# Altium footprint library 二极管.PcbLib: 25 footprints (part 2 of 2)
Each footprint in its own frame and in the unit in brackets; x right, y up, seen from the top. Pads: shape width x height; smd on the part's side, far side on the other; paste and mask are expansions set on the pad; w line width, h text height; cw(c..) or ccw(c..) is an arc to the next point about the centre after c.
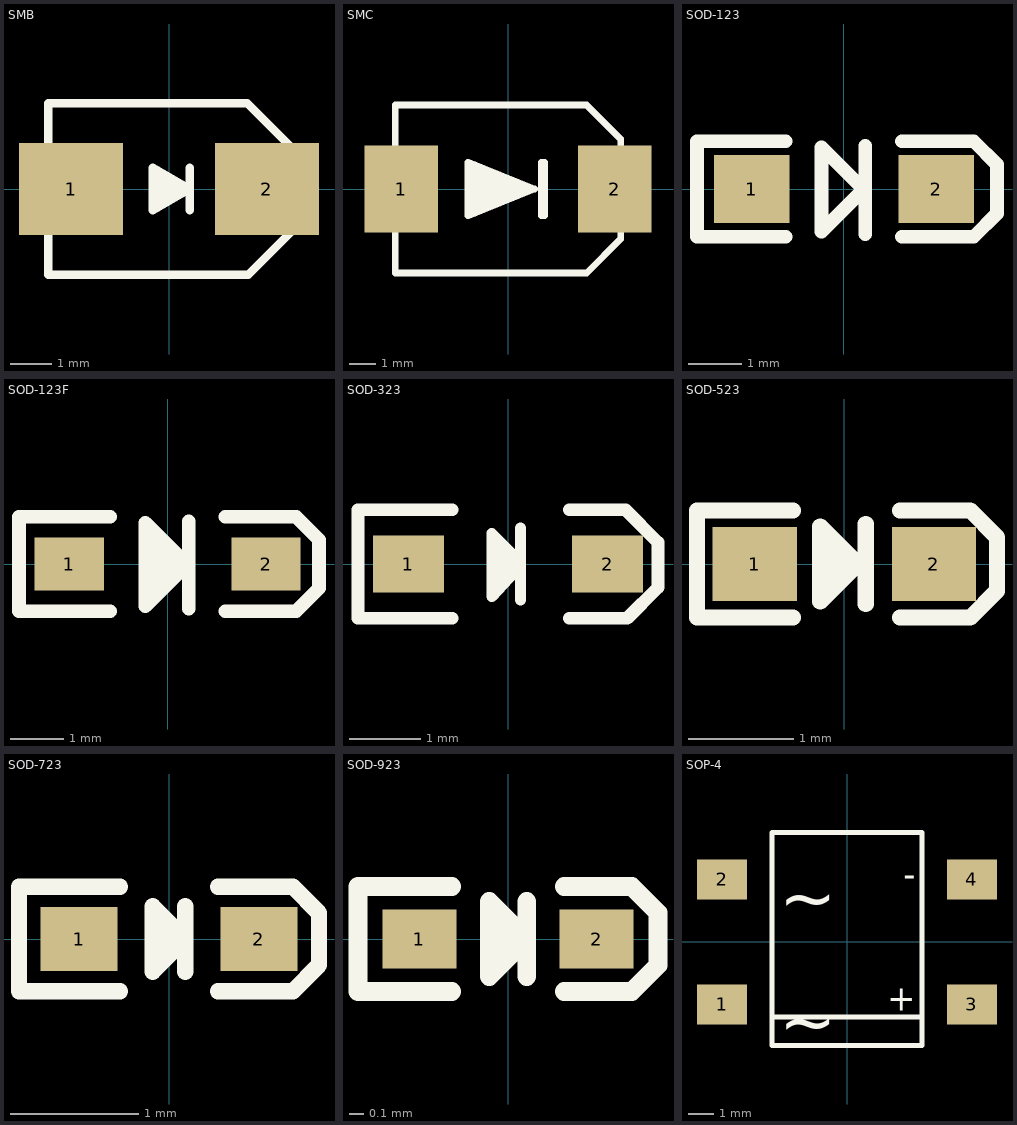
[diagram p1: the footprints below, top view; thin cyan lines are the x and y axes]

## SMB [mm] "4.7*3.9*2.2mm(长宽高，不包括引脚）"
height 2.4
pads (2):
  rect 2.5x2.2 smd: 1(-2.35,0) 2(2.35,0)
Top Overlay:
  lines w0.2: -2.896,-2.057 -2.896,2.057 1.88,2.057 2.896,1.041 2.896,-1.066 1.905,-2.057 -2.896,-2.057
  lines w0.203: 0.5,-0.508 0.5,0.508 ; -0.389,-0.508 -0.389,0.508 0.5,0 -0.389,-0.508
  lines w0.254: -0.254,0 0.279,0 ; 0.279,0 -0.229,0.279 -0.229,-0.305 0.279,0
3D body: height 2.35, standoff 0.04, extent -2.629,-1.8 2.675,1.8

## SMC [mil] "7.1x5.9*2.3mm（长宽高，不包括引脚）"
height 94.88
pads (2):
  rect 110x130 smd: 1(-160,0) 2(160,0)
Top Overlay:
  lines w10: -50,-36 -50,36 ; -50,-30 30,0 -50,30 ; -40,-26.25 -40,26.25 ; -30,-20 -30,22.5 ; -20,-18.75 -20,18.75 ; -20,-10 20,0 -20,10 ; -20,0 10,0 ; -169,-125.98 118.03,-125.98 169.02,-75 169.02,75 118.02,126 -169,126 -169,-125.98 ; -60,-40 40,0 -60,40 -60,-40 ; 50,-40 55,-40 55,40 50,40 50,-40
3D body: height 96.46, standoff 1.18, extent -155.62,-114.17 155.62,114.18

## SOD-123 [mil] "2.7x1.6X1.1mm（长宽高，不包括引脚）"
pads (2):
  rect 55x50 smd: 1(-67.5,0) 2(67.5,0)
Top Overlay:
  lines w10: -42.5,-35 -107.5,-35 -107.5,35 -42.5,35 ; 14,-0.8 -16.4,-31.2 -16.4,30.5 15.6,-1.5 ; 15.6,-33.1 15.6,31.7 ; 42.5,-35 95,-35 112,-18 112,18 95,35 42.5,35
3D body: height 48.03, standoff 0, extent -72.84,-31.5 72.83,31.5

## SOD-123F [mm] "2.7x1.6X1.1mm（长宽高，不包括引脚）"
pads (2):
  rect 1.3x1 smd: 1(-1.85,0) 2(1.85,0)
Top Overlay:
  lines w0.254: -1.079,-0.889 -2.794,-0.889 -2.794,0.889 -1.079,0.889 ; -0.254,0.559 -0.229,-0.432 0.254,0 0,0.254 0,0 0,-0.254 ; 0.356,-0.02 -0.417,-0.792 -0.417,0.775 0.396,-0.038 ; 0.396,-0.841 0.396,0.805 ; 1.079,-0.889 2.413,-0.889 2.845,-0.457 2.845,0.457 2.413,0.889 1.079,0.889
3D body: height 1.15, standoff 0.04, extent -1.9,-0.8 1.9,0.8

## SOD-323 [mm] "1.8x1.3X0.9mm（长宽高，不包括引脚）"
pads (2):
  rect 1x0.8 smd: 1(-1.4,0) 2(1.4,0)
Top Overlay:
  lines w0.152: 0.178,-0.508 0.178,0.508 ; 0.178,-0.025 -0.229,-0.457 -0.229,0.432 0.178,0.025
  lines w0.178: -0.787,-0.762 -2.108,-0.762 -2.108,0.762 -0.787,0.762 ; 0.864,-0.762 1.676,-0.762 2.108,-0.33 2.108,0.305 1.651,0.762 0.864,0.762
  lines w0.254: -0.127,0.254 -0.152,-0.178 0.025,-0.025 -0.025,0.127
3D body: height 1, standoff 0.04, extent -1.337,-0.631 1.311,0.669

## SOD-523 [mm] "1.2x0.8X0.6mm（长宽高，不包括引脚）"
pads (2):
  rect 0.8x0.7 smd: 1(-0.85,0) 2(0.85,0)
Top Overlay:
  rectangle: -0.178,-0.178 0,0.178
  lines w0.152: -0.488,-0.508 -1.397,-0.508 -1.397,0.508 -0.488,0.508 ; -0.127,0 0.127,0 ; 0.203,-0.381 0.203,0.381 ; 0.528,-0.508 1.194,-0.508 1.448,-0.254 1.448,0.254 1.194,0.508 0.528,0.508 ; 0.127,0 -0.229,-0.356 -0.229,0.356 0.127,0
3D body: height 0.65, standoff 0.05, extent -0.8,-0.4 0.8,0.4

## SOD-723 [mm] "1x0.6X0.5mm（长宽高，不包括引脚）"
pads (2):
  rect 0.6x0.5 smd: 1(-0.7,0) 2(0.7,0)
Top Overlay:
  lines w0.127: -0.381,-0.406 -1.168,-0.406 -1.168,0.406 -0.381,0.406 ; 0,-0.127 0,0.127 -0.127,0.254 ; 0.127,-0.254 0.127,0.254 ; 0.381,-0.406 0.965,-0.406 1.168,-0.203 1.168,0.203 0.965,0.406 0.381,0.406 ; -0.127,0.254 -0.127,-0.254 0.127,0 -0.127,0.254
3D body: height 0.53, standoff 0.03, extent -0.7,-0.3 0.7,0.3

## SOD-923 [mm] "0.8x0.6X0.4mm（长宽高，不包括引脚）"
pads (2):
  rect 0.5x0.4 smd: 1(-0.6,0) 2(0.6,0)
Top Overlay:
  lines w0.127: -0.381,-0.356 -1.016,-0.356 -1.016,0.356 -0.381,0.356 ; 0,-0.127 0,0.127 -0.127,0.254 ; 0.127,-0.254 0.127,0.254 ; 0.381,-0.356 0.838,-0.356 1.016,-0.178 1.016,0.178 0.838,0.356 0.381,0.356 ; -0.127,0.254 -0.127,-0.254 0.127,0 -0.127,0.254
3D body: height 0.43, standoff 0.03, extent -0.5,-0.3 0.5,0.3

## SOP-4 [mm] "贴片桥堆DB107S"
pads (4):
  rect 2x1.6 smd: 1(-5,-2.5) 2(-5,2.5) 3(5,-2.5) 4(5,2.5)
Top Overlay:
  lines w0.2: -3,-3 3,-3 ; -3,-4.151 -3,4.383 3,4.383 3,-4.151 -3,-4.151
  text "-" at 2.747,2.961 h1
  text "+" at 2.747,-1.865 h1
  text "~" at -2.714,0.802 h2
  text "~" at -2.714,-4.151 h2
3D body: height 2.9, standoff 0, extent -5,-4 5.3,4.2